# Altium integrated library 412.IntLib: 1 symbol
Pins are listed as number, name and electrical type; pins without a type are passive.

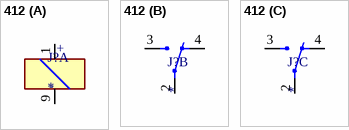
[diagram p0: symbol 412]

## 412
designator J?
12-VDC solenoid with a stroke length of 5.5 mm, 40-Î© coil resistance, and a maximum starting force of 5 N.; MF: Adafruit; MP: 412; SnapEDA_Link: https://www.snapeda.com/parts/412/Adafruit+Industries/view-part/?ref=snap; Check_prices: https://www.snapeda.com/parts/412/Adafruit+Industries/view-part/?ref=eda; Availability: In Stock; Package: None; Purchase-URL: https://pricing.snapeda.com/search/part/412/?ref=eda; Value: *; Price: None
footprint TO5-8-TH-NOGND
part A pins: 1 C+, 9 C-
part B pins: 2 COM, 3 NO, 4 NC
part C pins: 2 COM, 3 NO, 4 NC
part A text: +; -